# EAGLE library part ADM8828 (library Analog)
ADM8828 Switched-Capacitor Voltage Inverter with Shutdown. 99% Voltage Conversion Efficiency. 25 mA Output Current. 1 mF Capacitors. +1.5 V to +5.5 V Input Range. Datasheet <http://www.analog.com/media/en/technical-documentation/data-sheets/ADM8828_8829.pdf>
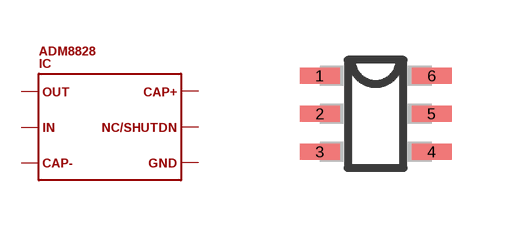
[diagram p2: symbol with the pads of SOT23-6; footprint SOT23-6]

Designator prefix IC

## ADM8828  [SOT23-6]
1  M1
2  M2
3  M3
4  M4
5  M5
6  M6

## Footprint SOT23-6 (pad centres in mm)
SOT23-6 Auto generated by make-symbol-device-package-bsdl.ulp Rev. 43
smd 1 x 0.4: 1 -1.4,0.95; 2 -1.4,0; 3 -1.4,-0.95; 4 1.4,-0.95; 5 1.4,0; 6 1.4,0.95